# EAGLE library part HEADER2X5-SHRD-SMT (library dp_devices)
5x2 SMT Shrouded pin header, pitch = 0.100 [2.54]
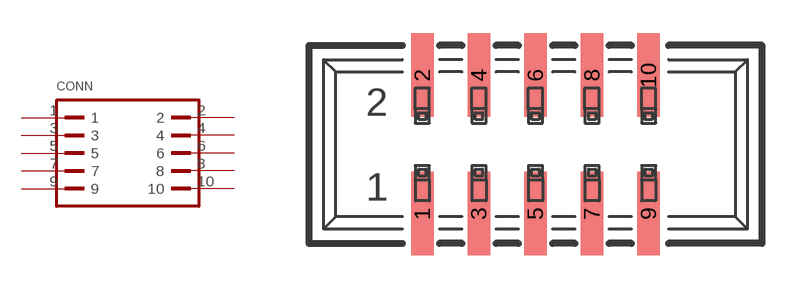
[diagram p25: symbol with the pads of PINSHRD_SMT_2X05; footprint PINSHRD_SMT_2X05]

Designator prefix CONN

## HEADER2X5-SHRD-SMT  [PINSHRD_SMT_2X05]
1  1  pas
2  2  pas
3  3  pas
4  4  pas
5  5  pas
6  6  pas
7  7  pas
8  8  pas
9  9  pas
10  10  pas

## Footprint PINSHRD_SMT_2X05 (pad centres in mm)
pitch = 0.100 [2.54], 2x5 source: http://www.mlelectronic.com/shrouded-headers/shrouded-headers-100.asp
smd 1.02 x 3.75: 1 -5.08,-3.107; 2 -5.08,3.107; 3 -2.54,-3.107; 4 -2.54,3.107; 5 0,-3.107; 6 0,3.107; 7 2.54,-3.107; 8 2.54,3.107; 9 5.08,-3.107; 10 5.08,3.107